# Altium schematic symbol library RB1-125BAG1A.Schlib: 1 symbol
Pins are listed as number, name and electrical type; pins without a type are passive.

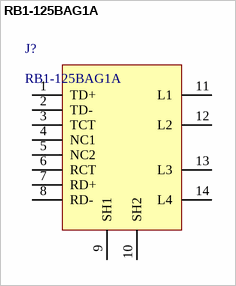
[diagram p0: symbol RB1-125BAG1A]

## RB1-125BAG1A
designator J?
pins: 1 TD+, 2 TD-, 3 TCT, 4 NC1, 5 NC2, 6 RCT, 7 RD+, 8 RD-, 9 SH1, 10 SH2, 11 L1, 12 L2, 13 L3, 14 L4